# Altium schematic symbol library KF2510.SchLib: 14 symbols
Pins are listed as number, name and electrical type; pins without a type are passive.

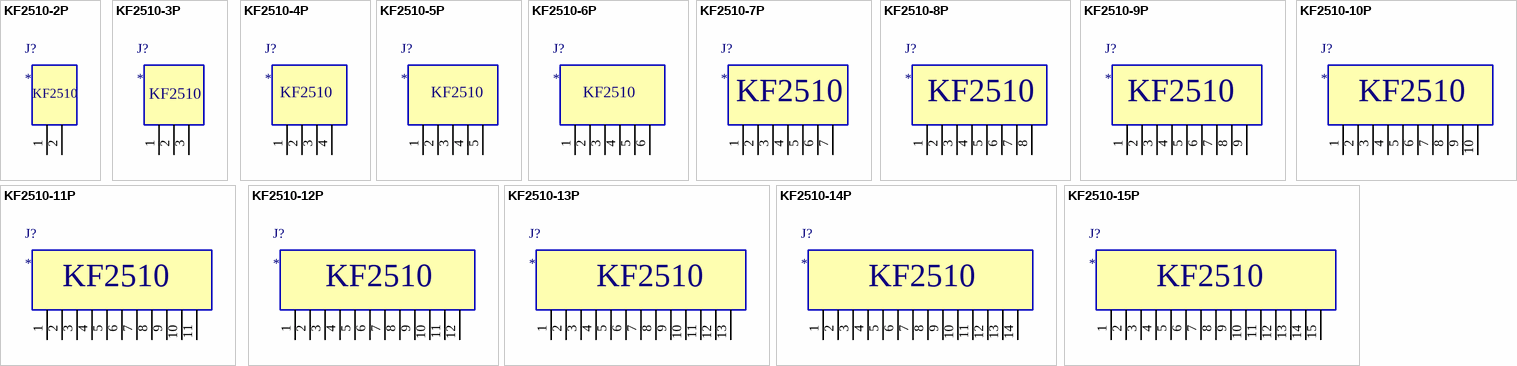
[diagram p0: symbols KF2510-2P to KF2510-15P]

## KF2510-2P
designator J?
pins: 1, 2
text: KF2510

## KF2510-3P
designator J?
pins: 1, 2, 3
text: KF2510

## KF2510-4P
designator J?
pins: 1, 2, 3, 4
text: KF2510

## KF2510-5P
designator J?
pins: 1, 2, 3, 4, 5
text: KF2510

## KF2510-6P
designator J?
pins: 1, 2, 3, 4, 5, 6
text: KF2510

## KF2510-7P
designator J?
pins: 1, 2, 3, 4, 5, 6, 7
text: KF2510

## KF2510-8P
designator J?
pins: 1, 2, 3, 4, 5, 6, 7, 8
text: KF2510

## KF2510-9P
designator J?
pins: 1, 2, 3, 4, 5, 6, 7, 8, 9
text: KF2510

## KF2510-10P
designator J?
pins: 1, 2, 3, 4, 5, 6, 7, 8, 9, 10
text: KF2510

## KF2510-11P
designator J?
pins: 1, 2, 3, 4, 5, 6, 7, 8, 9, 10, 11
text: KF2510

## KF2510-12P
designator J?
pins: 1, 2, 3, 4, 5, 6, 7, 8, 9, 10, 11, 12
text: KF2510

## KF2510-13P
designator J?
pins: 1, 2, 3, 4, 5, 6, 7, 8, 9, 10, 11, 12, 13
text: KF2510

## KF2510-14P
designator J?
pins: 1, 2, 3, 4, 5, 6, 7, 8, 9, 10, 11, 12, 13, 14
text: KF2510

## KF2510-15P
designator J?
pins: 1, 2, 3, 4, 5, 6, 7, 8, 9, 10, 11, 12, 13, 14, 15
text: KF2510